# Altium integrated library TI Amplifiers and Linear Operational Amplifier High Speed.IntLib: 1100 symbols (part 2 of 44)
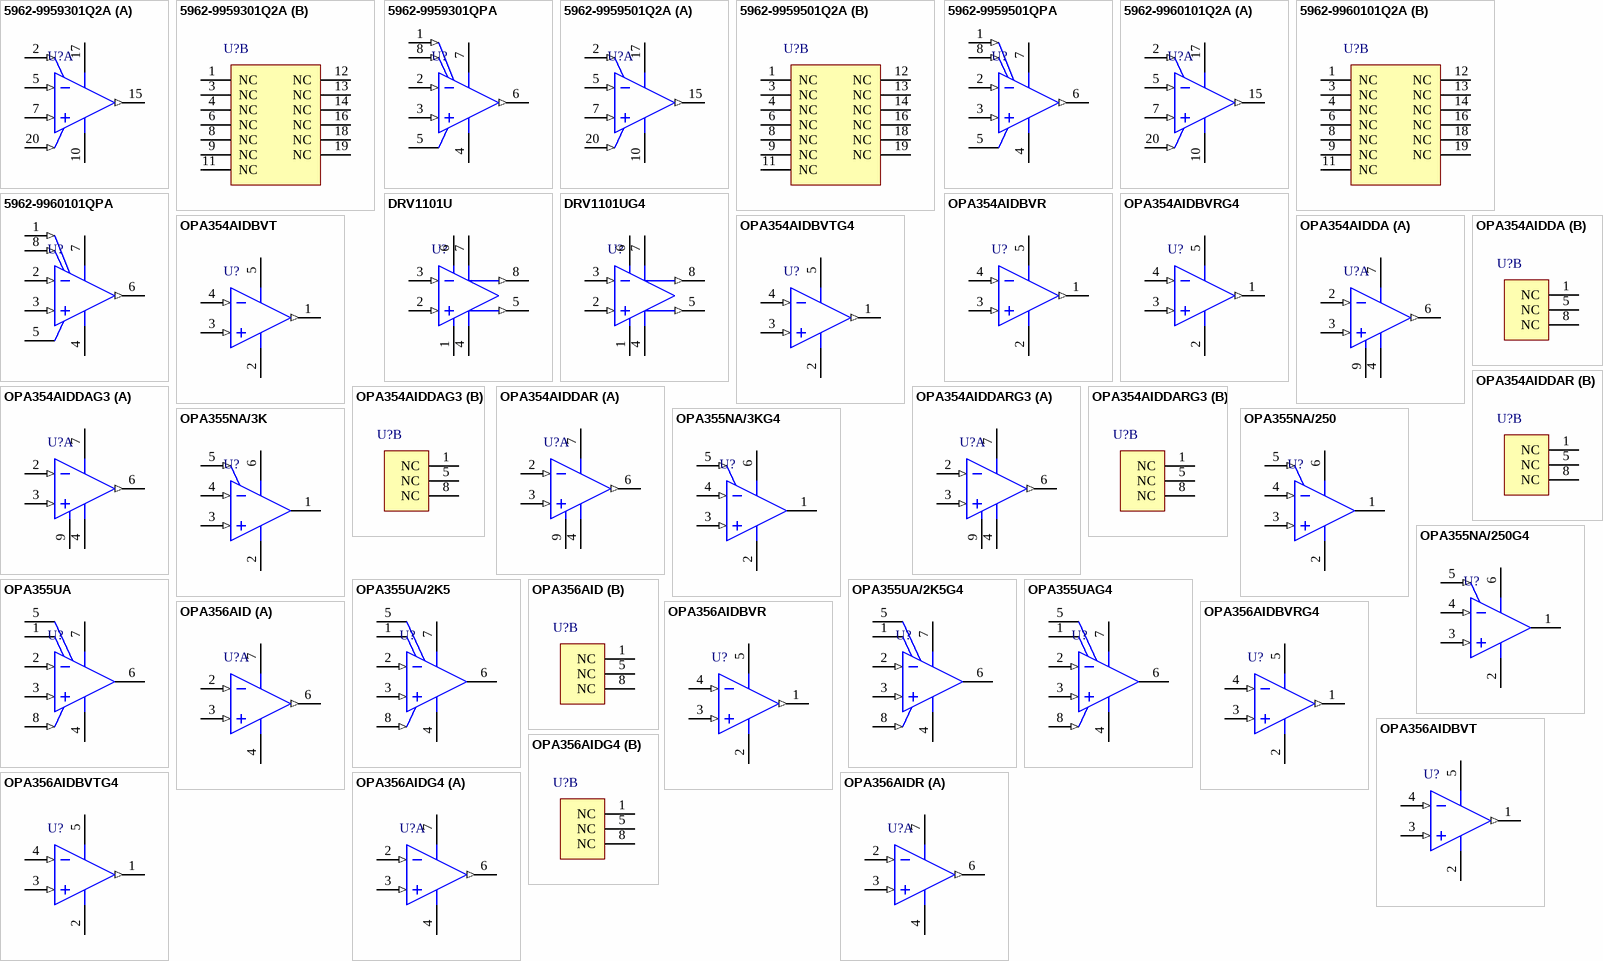
[diagram p52: symbols 5962-9959301Q2A to OPA356AIDR]

## OPA356AIDBVRG4
designator U?
200 MHz GBW, CMOS Single Operational Amplifier, 2.5 to 5.5 V, -40 to 125 degC, 5-pin SOT23 (DBV5), Green (RoHS & no Sb/Br); Manufacturer: Texas Instruments; PartNumber: OPA356AIDBVRG4; 2nd Harmonic(dBc): 81; 3rd Harmonic(dBc): 93; @ MHz: 1; BW @ Acl(MHz): 450; Diff Gain(%): 0.02; Diff Phase(deg): 0.05; Io(Typ)(mA): 100; Iq per channel(Max)(mA): 14; Rail-Rail: Out; Settling Time (0.1%)(Typ)(ns): 30; Slew Rate(Typ)(V/us): 360; Sub Family: High Output Current Amplifier (>=50mA), High Speed Amplifier (>=50MHz), Low Supply Voltage Amplifier (<=2.7V); THD (Fc is 1 MHz)(Typ)(dB): -79; Vio(Max)(mV): 9; Vn at Flatband(Typ)(nV/rtHz): 5.8; Vs(Max)(V): 5.5; Vs(Min)(V): 2.5; DatasheetVersion: SBOS212A; PackageVersion: 4073253-4/K, 03/2006; PackageReference: DBV5; PackageDescription: 5-Pin Plastic Small Outline, Body 1.6 x 2.9 mm, Pitch 0.95 mm; Supplier 1: Digi-Key; Supplier Part Number 1: OPA356AIDBVRG4-ND; Supplier 2: Newark; Supplier Part Number 2: 66K4003; Supplier 3: Mouser; Supplier Part Number 3: 595-OPA356AIDBVRG4; Acl, min stable gain(V/V): 1; Eco-Plan: Green (RoHS & no Sb/Br); Iib(Max)(nA): 0.05; Number of Channels: 1; Mounting Technology: Surface Mount; Code_JEDEC: MO-178; ComponentLink1Description: Manufacturer URL; ComponentLink1URL: http://www.ti.com/; ComponentLink2Description: Datasheet; ComponentLink2URL: http://www.ti.com/general/docs/lit/getliterature.tsp?genericPartNumber=OPA356&fileType=pdf; ComponentLink3Description: Package Specification; ComponentLink3URL: http://www.ti.com/litv/pdf/mpds018i
footprint TI-DBV5_N (SOT23, 5-Leads, Body 2.9x1.6mm, Pitch 0.95mm, IPC Medium Density)
footprint TI-DBV5_L (SOT23, 5-Leads, Body 2.9x1.6mm, Pitch 0.95mm, IPC High Density)
footprint TI-DBV5_M (SOT23, 5-Leads, Body 2.9x1.6mm, Pitch 0.95mm, IPC Low Density)
pins: 1 OUT (out), 2 V- (power), 3 IN+ (in), 4 IN- (in), 5 V+ (power)

## OPA356AIDBVT
designator U?
200 MHz GBW, CMOS Single Operational Amplifier, 2.5 to 5.5 V, -40 to 125 degC, 5-pin SOT23 (DBV5), Green (RoHS & no Sb/Br); Manufacturer: Texas Instruments; PartNumber: OPA356AIDBVT; 2nd Harmonic(dBc): 81; 3rd Harmonic(dBc): 93; @ MHz: 1; BW @ Acl(MHz): 450; Diff Gain(%): 0.02; Diff Phase(deg): 0.05; Io(Typ)(mA): 100; Iq per channel(Max)(mA): 14; Rail-Rail: Out; Settling Time (0.1%)(Typ)(ns): 30; Slew Rate(Typ)(V/us): 360; Sub Family: High Output Current Amplifier (>=50mA), High Speed Amplifier (>=50MHz), Low Supply Voltage Amplifier (<=2.7V); THD (Fc is 1 MHz)(Typ)(dB): -79; Vio(Max)(mV): 9; Vn at Flatband(Typ)(nV/rtHz): 5.8; Vs(Max)(V): 5.5; Vs(Min)(V): 2.5; DatasheetVersion: SBOS212A; PackageVersion: 4073253-4/K, 03/2006; PackageReference: DBV5; PackageDescription: 5-Pin Plastic Small Outline, Body 1.6 x 2.9 mm, Pitch 0.95 mm; Supplier 1: Digi-Key; Supplier Part Number 1: 296-12619-2-ND; Supplier 2: Digi-Key; Supplier Part Number 2: 296-12619-1-ND; Supplier 3: Digi-Key; Supplier Part Number 3: 296-12619-6-ND; Supplier 4: Farnell; Supplier Part Number 4: 1100953; Supplier 5: Newark; Supplier Part Number 5: 02M6680; Supplier 6: Newark; Supplier Part Number 6: 75C4913; Supplier 7: Mouser; Supplier Part Number 7: 595-OPA356AIDBVT; Acl, min stable gain(V/V): 1; Eco-Plan: Green (RoHS & no Sb/Br); Iib(Max)(nA): 0.05; Number of Channels: 1; Mounting Technology: Surface Mount; Code_JEDEC: MO-178; ComponentLink1Description: Manufacturer URL; ComponentLink1URL: http://www.ti.com/; ComponentLink2Description: Datasheet; ComponentLink2URL: http://www.ti.com/general/docs/lit/getliterature.tsp?genericPartNumber=OPA356&fileType=pdf; ComponentLink3Description: Package Specification; ComponentLink3URL: http://www.ti.com/litv/pdf/mpds018i
footprint TI-DBV5_N (SOT23, 5-Leads, Body 2.9x1.6mm, Pitch 0.95mm, IPC Medium Density)
footprint TI-DBV5_L (SOT23, 5-Leads, Body 2.9x1.6mm, Pitch 0.95mm, IPC High Density)
footprint TI-DBV5_M (SOT23, 5-Leads, Body 2.9x1.6mm, Pitch 0.95mm, IPC Low Density)
pins: 1 OUT (out), 2 V- (power), 3 IN+ (in), 4 IN- (in), 5 V+ (power)

## OPA356AIDBVTG4
designator U?
200 MHz GBW, CMOS Single Operational Amplifier, 2.5 to 5.5 V, -40 to 125 degC, 5-pin SOT23 (DBV5), Green (RoHS & no Sb/Br); Manufacturer: Texas Instruments; PartNumber: OPA356AIDBVTG4; 2nd Harmonic(dBc): 81; 3rd Harmonic(dBc): 93; @ MHz: 1; BW @ Acl(MHz): 450; Diff Gain(%): 0.02; Diff Phase(deg): 0.05; Io(Typ)(mA): 100; Iq per channel(Max)(mA): 14; Rail-Rail: Out; Settling Time (0.1%)(Typ)(ns): 30; Slew Rate(Typ)(V/us): 360; Sub Family: High Output Current Amplifier (>=50mA), High Speed Amplifier (>=50MHz), Low Supply Voltage Amplifier (<=2.7V); THD (Fc is 1 MHz)(Typ)(dB): -79; Vio(Max)(mV): 9; Vn at Flatband(Typ)(nV/rtHz): 5.8; Vs(Max)(V): 5.5; Vs(Min)(V): 2.5; DatasheetVersion: SBOS212A; PackageVersion: 4073253-4/K, 03/2006; PackageReference: DBV5; PackageDescription: 5-Pin Plastic Small Outline, Body 1.6 x 2.9 mm, Pitch 0.95 mm; Supplier 1: Digi-Key; Supplier Part Number 1: OPA356AIDBVTG4-ND; Supplier 2: Mouser; Supplier Part Number 2: 595-OPA356AIDBVTG4; Acl, min stable gain(V/V): 1; Eco-Plan: Green (RoHS & no Sb/Br); Iib(Max)(nA): 0.05; Number of Channels: 1; Mounting Technology: Surface Mount; Code_JEDEC: MO-178; ComponentLink1Description: Manufacturer URL; ComponentLink1URL: http://www.ti.com/; ComponentLink2Description: Datasheet; ComponentLink2URL: http://www.ti.com/general/docs/lit/getliterature.tsp?genericPartNumber=OPA356&fileType=pdf; ComponentLink3Description: Package Specification; ComponentLink3URL: http://www.ti.com/litv/pdf/mpds018i
footprint TI-DBV5_N (SOT23, 5-Leads, Body 2.9x1.6mm, Pitch 0.95mm, IPC Medium Density)
footprint TI-DBV5_L (SOT23, 5-Leads, Body 2.9x1.6mm, Pitch 0.95mm, IPC High Density)
footprint TI-DBV5_M (SOT23, 5-Leads, Body 2.9x1.6mm, Pitch 0.95mm, IPC Low Density)
pins: 1 OUT (out), 2 V- (power), 3 IN+ (in), 4 IN- (in), 5 V+ (power)

## OPA356AIDG4
designator U?
200 MHz GBW, CMOS Single Operational Amplifier, 2.5 to 5.5 V, -40 to 125 degC, 8-pin SOIC (D8), Green (RoHS & no Sb/Br); Manufacturer: Texas Instruments; PartNumber: OPA356AIDG4; 2nd Harmonic(dBc): 81; 3rd Harmonic(dBc): 93; @ MHz: 1; BW @ Acl(MHz): 450; Diff Gain(%): 0.02; Diff Phase(deg): 0.05; Io(Typ)(mA): 100; Iq per channel(Max)(mA): 14; Rail-Rail: Out; Settling Time (0.1%)(Typ)(ns): 30; Slew Rate(Typ)(V/us): 360; Sub Family: High Output Current Amplifier (>=50mA), High Speed Amplifier (>=50MHz), Low Supply Voltage Amplifier (<=2.7V); THD (Fc is 1 MHz)(Typ)(dB): -79; Vio(Max)(mV): 9; Vn at Flatband(Typ)(nV/rtHz): 5.8; Vs(Max)(V): 5.5; Vs(Min)(V): 2.5; DatasheetVersion: SBOS212A; PackageVersion: 4040047-3/M, 06/2011; PackageReference: D8; PackageDescription: 8-Pin Plastic Small Outline, Body 4.9 x 3.9 mm, Pitch 1.27 mm; Supplier 1: Digi-Key; Supplier Part Number 1: OPA356AIDG4-ND; Supplier 2: Mouser; Supplier Part Number 2: 595-OPA356AIDG4; Acl, min stable gain(V/V): 1; Eco-Plan: Green (RoHS & no Sb/Br); Iib(Max)(nA): 0.05; Number of Channels: 1; Mounting Technology: Surface Mount; Code_JEDEC: MS-012; ComponentLink1Description: Manufacturer URL; ComponentLink1URL: http://www.ti.com/; ComponentLink2Description: Datasheet; ComponentLink2URL: http://www.ti.com/general/docs/lit/getliterature.tsp?genericPartNumber=OPA356&fileType=pdf; ComponentLink3Description: Package Specification; ComponentLink3URL: http://www.ti.com/litv/pdf/msoi002j
footprint TI-D8_N (SOIC, 8-Leads, Body 4.9x3.9mm, Pitch 1.27mm, IPC Medium Density)
footprint TI-D8_L (SOIC, 8-Leads, Body 4.9x3.9mm, Pitch 1.27mm, IPC High Density)
footprint TI-D8_M (SOIC, 8-Leads, Body 4.9x3.9mm, Pitch 1.27mm, IPC Low Density)
part A pins: 2 IN- (in), 3 IN+ (in), 4 V- (power), 6 OUT (out), 7 V+ (power)
part B pins: 1 NC, 5 NC, 8 NC

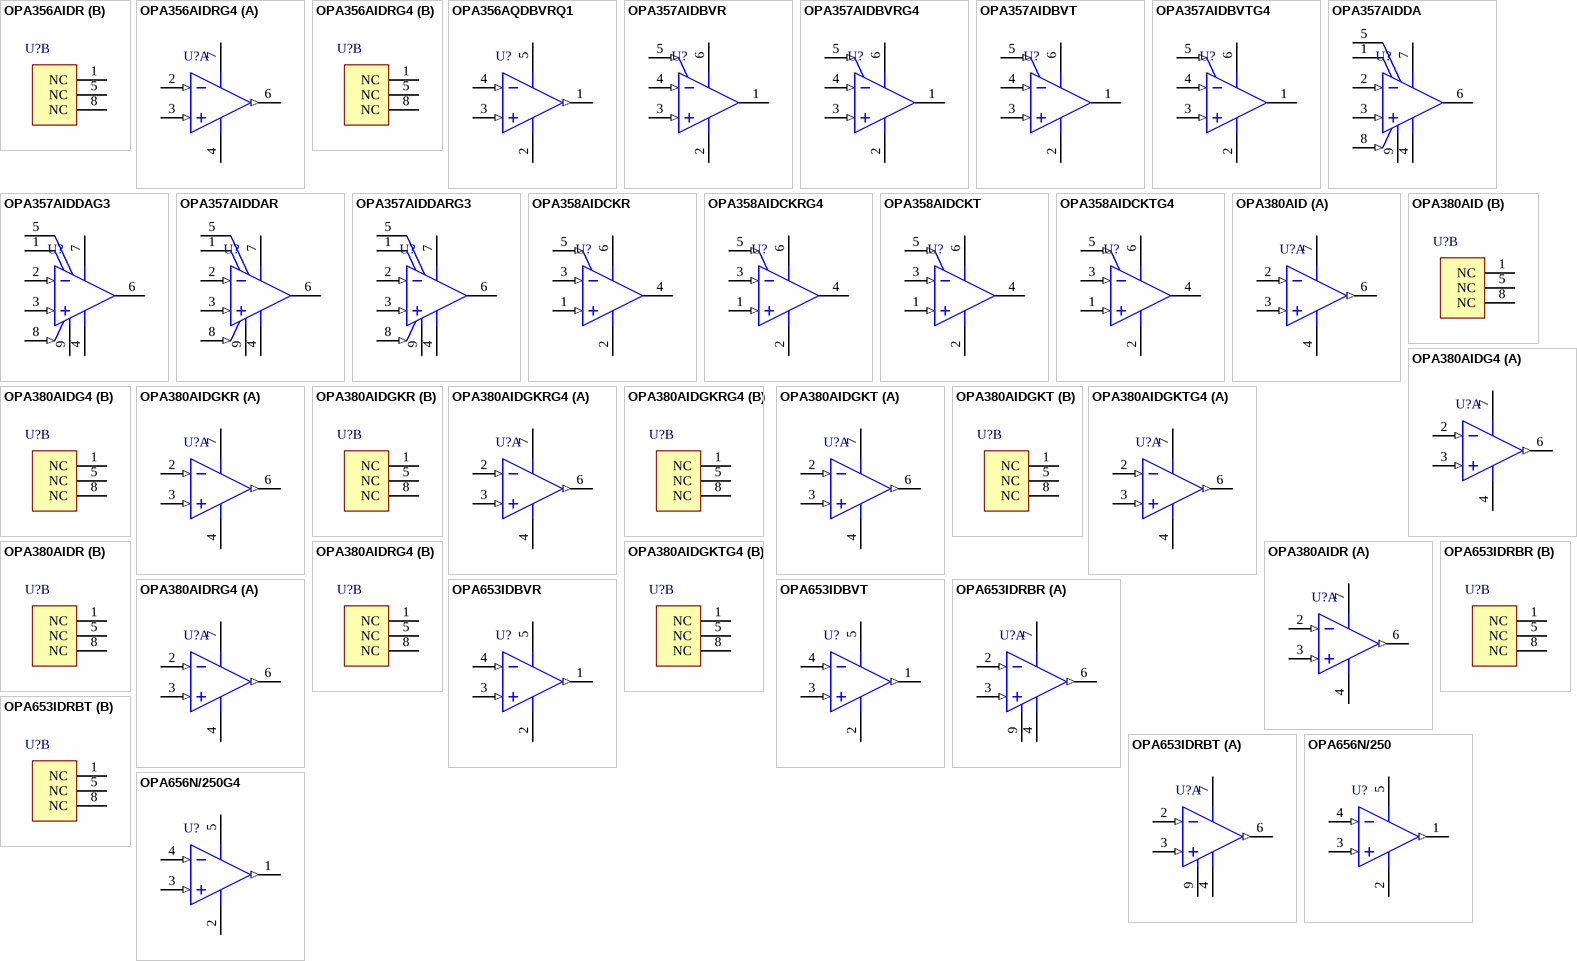
[diagram p1: symbols OPA356AIDR to OPA656N/250G4]

## OPA356AIDR
designator U?
200 MHz GBW, CMOS Single Operational Amplifier, 2.5 to 5.5 V, -40 to 125 degC, 8-pin SOIC (D8), Green (RoHS & no Sb/Br); Manufacturer: Texas Instruments; PartNumber: OPA356AIDR; 2nd Harmonic(dBc): 81; 3rd Harmonic(dBc): 93; @ MHz: 1; BW @ Acl(MHz): 450; Diff Gain(%): 0.02; Diff Phase(deg): 0.05; Io(Typ)(mA): 100; Iq per channel(Max)(mA): 14; Rail-Rail: Out; Settling Time (0.1%)(Typ)(ns): 30; Slew Rate(Typ)(V/us): 360; Sub Family: High Output Current Amplifier (>=50mA), High Speed Amplifier (>=50MHz), Low Supply Voltage Amplifier (<=2.7V); THD (Fc is 1 MHz)(Typ)(dB): -79; Vio(Max)(mV): 9; Vn at Flatband(Typ)(nV/rtHz): 5.8; Vs(Max)(V): 5.5; Vs(Min)(V): 2.5; DatasheetVersion: SBOS212A; PackageVersion: 4040047-3/M, 06/2011; PackageReference: D8; PackageDescription: 8-Pin Plastic Small Outline, Body 4.9 x 3.9 mm, Pitch 1.27 mm; Supplier 1: Digi-Key; Supplier Part Number 1: OPA356AIDR-ND; Supplier 2: Newark; Supplier Part Number 2: 75C4914; Supplier 3: Mouser; Supplier Part Number 3: 595-OPA356AIDR; Acl, min stable gain(V/V): 1; Eco-Plan: Green (RoHS & no Sb/Br); Iib(Max)(nA): 0.05; Number of Channels: 1; Mounting Technology: Surface Mount; Code_JEDEC: MS-012; ComponentLink1Description: Manufacturer URL; ComponentLink1URL: http://www.ti.com/; ComponentLink2Description: Datasheet; ComponentLink2URL: http://www.ti.com/general/docs/lit/getliterature.tsp?genericPartNumber=OPA356&fileType=pdf; ComponentLink3Description: Package Specification; ComponentLink3URL: http://www.ti.com/litv/pdf/msoi002j
footprint TI-D8_N (SOIC, 8-Leads, Body 4.9x3.9mm, Pitch 1.27mm, IPC Medium Density)
footprint TI-D8_L (SOIC, 8-Leads, Body 4.9x3.9mm, Pitch 1.27mm, IPC High Density)
footprint TI-D8_M (SOIC, 8-Leads, Body 4.9x3.9mm, Pitch 1.27mm, IPC Low Density)
part A pins: 2 IN- (in), 3 IN+ (in), 4 V- (power), 6 OUT (out), 7 V+ (power)
part B pins: 1 NC, 5 NC, 8 NC

## OPA356AIDRG4
designator U?
200 MHz GBW, CMOS Single Operational Amplifier, 2.5 to 5.5 V, -40 to 125 degC, 8-pin SOIC (D8), Green (RoHS & no Sb/Br); Manufacturer: Texas Instruments; PartNumber: OPA356AIDRG4; 2nd Harmonic(dBc): 81; 3rd Harmonic(dBc): 93; @ MHz: 1; BW @ Acl(MHz): 450; Diff Gain(%): 0.02; Diff Phase(deg): 0.05; Io(Typ)(mA): 100; Iq per channel(Max)(mA): 14; Rail-Rail: Out; Settling Time (0.1%)(Typ)(ns): 30; Slew Rate(Typ)(V/us): 360; Sub Family: High Output Current Amplifier (>=50mA), High Speed Amplifier (>=50MHz), Low Supply Voltage Amplifier (<=2.7V); THD (Fc is 1 MHz)(Typ)(dB): -79; Vio(Max)(mV): 9; Vn at Flatband(Typ)(nV/rtHz): 5.8; Vs(Max)(V): 5.5; Vs(Min)(V): 2.5; DatasheetVersion: SBOS212A; PackageVersion: 4040047-3/M, 06/2011; PackageReference: D8; PackageDescription: 8-Pin Plastic Small Outline, Body 4.9 x 3.9 mm, Pitch 1.27 mm; Supplier 1: Digi-Key; Supplier Part Number 1: OPA356AIDRG4-ND; Supplier 2: Mouser; Supplier Part Number 2: 595-OPA356AIDRG4; Acl, min stable gain(V/V): 1; Eco-Plan: Green (RoHS & no Sb/Br); Iib(Max)(nA): 0.05; Number of Channels: 1; Mounting Technology: Surface Mount; Code_JEDEC: MS-012; ComponentLink1Description: Manufacturer URL; ComponentLink1URL: http://www.ti.com/; ComponentLink2Description: Datasheet; ComponentLink2URL: http://www.ti.com/general/docs/lit/getliterature.tsp?genericPartNumber=OPA356&fileType=pdf; ComponentLink3Description: Package Specification; ComponentLink3URL: http://www.ti.com/litv/pdf/msoi002j
footprint TI-D8_N (SOIC, 8-Leads, Body 4.9x3.9mm, Pitch 1.27mm, IPC Medium Density)
footprint TI-D8_L (SOIC, 8-Leads, Body 4.9x3.9mm, Pitch 1.27mm, IPC High Density)
footprint TI-D8_M (SOIC, 8-Leads, Body 4.9x3.9mm, Pitch 1.27mm, IPC Low Density)
part A pins: 2 IN- (in), 3 IN+ (in), 4 V- (power), 6 OUT (out), 7 V+ (power)
part B pins: 1 NC, 5 NC, 8 NC

## OPA356AQDBVRQ1
designator U?
200 MHz GBW, CMOS Single Operational Amplifier, 2.5 to 5.5 V, -40 to 125 degC, 5-pin SOT23 (DBV5), Green (RoHS & no Sb/Br); Manufacturer: Texas Instruments; PartNumber: OPA356AQDBVRQ1; 2nd Harmonic(dBc): 81; 3rd Harmonic(dBc): 93; Acl, min stable gain(V/V): 1; BW @ Acl(MHz): 450; Diff Gain(%): 0.02; Diff Phase(deg): 0.05; Io(Typ)(mA): 80; Iq per channel(Max)(mA): 14; Rail-Rail: Out; Settling Time (0.1%)(Typ)(ns): 30; Slew Rate(Typ)(V/us): 360; Sub Family: High Output Current Amplifier (>=50mA), High Speed Amplifier (>=50MHz), Low Supply Voltage Amplifier (<=2.7V); Vio(Max)(mV): 15; Vn at Flatband(Typ)(nV/rtHz): 5.8; Vs(Max)(V): 5.5; Vs(Min)(V): 2.5; DatasheetVersion: SBOS479; PackageVersion: 4073253-4/K, 03/2006; PackageReference: DBV5; PackageDescription: 5-Pin Plastic Small Outline, Body 1.6 x 2.9 mm, Pitch 0.95 mm; Supplier 1: Digi-Key; Supplier Part Number 1: 296-25390-2-ND; Supplier 2: Digi-Key; Supplier Part Number 2: 296-25390-1-ND; Supplier 3: Digi-Key; Supplier Part Number 3: 296-25390-6-ND; Supplier 4: Mouser; Supplier Part Number 4: 595-OPA356AQDBVRQ1; Eco-Plan: Green (RoHS & no Sb/Br); Iib(Max)(nA): 0.05; Number of Channels: 1; Mounting Technology: Surface Mount; Code_JEDEC: MO-178; ComponentLink1Description: Manufacturer URL; ComponentLink1URL: http://www.ti.com/; ComponentLink2Description: Datasheet; ComponentLink2URL: http://www.ti.com/general/docs/lit/getliterature.tsp?genericPartNumber=OPA356-Q1&fileType=pdf; ComponentLink3Description: Package Specification; ComponentLink3URL: http://www.ti.com/litv/pdf/mpds018i
footprint TI-DBV5_N (SOT23, 5-Leads, Body 2.9x1.6mm, Pitch 0.95mm, IPC Medium Density)
footprint TI-DBV5_L (SOT23, 5-Leads, Body 2.9x1.6mm, Pitch 0.95mm, IPC High Density)
footprint TI-DBV5_M (SOT23, 5-Leads, Body 2.9x1.6mm, Pitch 0.95mm, IPC Low Density)
pins: 1 OUT (out), 2 V- (power), 3 IN+ (in), 4 IN- (in), 5 V+ (power)

## OPA357AIDBVR
designator U?
250 MHz, Rail-to-Rail I/O, Single CMOS Operational Amplifier with Shutdown, 2.5 to 5.5 V, -40 to 125 degC, 6-pin SOT23 (DBV6), Green (RoHS & no Sb/Br); Manufacturer: Texas Instruments; PartNumber: OPA357AIDBVR; 2nd Harmonic(dBc): 75; 3rd Harmonic(dBc): 83; @ MHz: 1; BW @ Acl(MHz): 250; Diff Gain(%): 0.02; Diff Phase(deg): 0.09; Iib(Max)(nA): 0.05; Io(Typ)(mA): 100; Iq per channel(Max)(mA): 7.5; Rail-Rail: In, Out; Settling Time (0.1%)(Typ)(ns): 30; Slew Rate(Typ)(V/us): 150; Sub Family: High Output Current Amplifier (>=50mA), High Speed Amplifier (>=50MHz), Low Supply Voltage Amplifier (<=2.7V); THD (Fc is 1 MHz)(Typ)(dB): -74; Vio(Max)(mV): 8; Vn at Flatband(Typ)(nV/rtHz): 6.5; Vs(Max)(V): 5.5; Vs(Min)(V): 2.5; DatasheetVersion: SBOS235E; PackageVersion: 4073253-5/K, 03/2006; PackageReference: DBV6; PackageDescription: 6-Pin Plastic Small Outline, Body 1.6 x 2.9 mm, Pitch 0.95 mm; Supplier 1: Digi-Key; Supplier Part Number 1: 296-26280-2-ND; Supplier 2: Digi-Key; Supplier Part Number 2: 296-26280-1-ND; Supplier 3: Digi-Key; Supplier Part Number 3: 296-26280-6-ND; Supplier 4: Newark; Supplier Part Number 4: 75C4915; Supplier 5: Mouser; Supplier Part Number 5: 595-OPA357AIDBVR; Acl, min stable gain(V/V): 1; Eco-Plan: Green (RoHS & no Sb/Br); Number of Channels: 1; Mounting Technology: Surface Mount; Code_JEDEC: MO-178; ComponentLink1Description: Manufacturer URL; ComponentLink1URL: http://www.ti.com/; ComponentLink2Description: Datasheet; ComponentLink2URL: http://www.ti.com/general/docs/lit/getliterature.tsp?genericPartNumber=OPA357&fileType=pdf; ComponentLink3Description: Package Specification; ComponentLink3URL: http://www.ti.com/litv/pdf/mpds026h
footprint TI-DBV6_N (SOT23, 6-Leads, Body 2.9x1.6mm, Pitch 0.95mm, IPC Medium Density)
footprint TI-DBV6_L (SOT23, 6-Leads, Body 2.9x1.6mm, Pitch 0.95mm, IPC High Density)
footprint TI-DBV6_M (SOT23, 6-Leads, Body 2.9x1.6mm, Pitch 0.95mm, IPC Low Density)
pins: 1 OUT (hiz), 2 V- (power), 3 IN+ (in), 4 IN- (in), 5 ENABLE (in), 6 V+ (power)

## OPA357AIDBVRG4
designator U?
250 MHz, Rail-to-Rail I/O, Single CMOS Operational Amplifier with Shutdown, 2.5 to 5.5 V, -40 to 125 degC, 6-pin SOT23 (DBV6), Green (RoHS & no Sb/Br); Manufacturer: Texas Instruments; PartNumber: OPA357AIDBVRG4; 2nd Harmonic(dBc): 75; 3rd Harmonic(dBc): 83; @ MHz: 1; BW @ Acl(MHz): 250; Diff Gain(%): 0.02; Diff Phase(deg): 0.09; Iib(Max)(nA): 0.05; Io(Typ)(mA): 100; Iq per channel(Max)(mA): 7.5; Rail-Rail: In, Out; Settling Time (0.1%)(Typ)(ns): 30; Slew Rate(Typ)(V/us): 150; Sub Family: High Output Current Amplifier (>=50mA), High Speed Amplifier (>=50MHz), Low Supply Voltage Amplifier (<=2.7V); THD (Fc is 1 MHz)(Typ)(dB): -74; Vio(Max)(mV): 8; Vn at Flatband(Typ)(nV/rtHz): 6.5; Vs(Max)(V): 5.5; Vs(Min)(V): 2.5; DatasheetVersion: SBOS235E; PackageVersion: 4073253-5/K, 03/2006; PackageReference: DBV6; PackageDescription: 6-Pin Plastic Small Outline, Body 1.6 x 2.9 mm, Pitch 0.95 mm; Supplier 1: Digi-Key; Supplier Part Number 1: OPA357AIDBVRG4-ND; Supplier 2: Newark; Supplier Part Number 2: 71J7134; Supplier 3: Mouser; Supplier Part Number 3: 595-OPA357AIDBVRG4; Acl, min stable gain(V/V): 1; Eco-Plan: Green (RoHS & no Sb/Br); Number of Channels: 1; Mounting Technology: Surface Mount; Code_JEDEC: MO-178; ComponentLink1Description: Manufacturer URL; ComponentLink1URL: http://www.ti.com/; ComponentLink2Description: Datasheet; ComponentLink2URL: http://www.ti.com/general/docs/lit/getliterature.tsp?genericPartNumber=OPA357&fileType=pdf; ComponentLink3Description: Package Specification; ComponentLink3URL: http://www.ti.com/litv/pdf/mpds026h
footprint TI-DBV6_N (SOT23, 6-Leads, Body 2.9x1.6mm, Pitch 0.95mm, IPC Medium Density)
footprint TI-DBV6_L (SOT23, 6-Leads, Body 2.9x1.6mm, Pitch 0.95mm, IPC High Density)
footprint TI-DBV6_M (SOT23, 6-Leads, Body 2.9x1.6mm, Pitch 0.95mm, IPC Low Density)
pins: 1 OUT (hiz), 2 V- (power), 3 IN+ (in), 4 IN- (in), 5 ENABLE (in), 6 V+ (power)

## OPA357AIDBVT
designator U?
250 MHz, Rail-to-Rail I/O, Single CMOS Operational Amplifier with Shutdown, 2.5 to 5.5 V, -40 to 125 degC, 6-pin SOT23 (DBV6), Green (RoHS & no Sb/Br); Manufacturer: Texas Instruments; PartNumber: OPA357AIDBVT; 2nd Harmonic(dBc): 75; 3rd Harmonic(dBc): 83; @ MHz: 1; BW @ Acl(MHz): 250; Diff Gain(%): 0.02; Diff Phase(deg): 0.09; Iib(Max)(nA): 0.05; Io(Typ)(mA): 100; Iq per channel(Max)(mA): 7.5; Rail-Rail: In, Out; Settling Time (0.1%)(Typ)(ns): 30; Slew Rate(Typ)(V/us): 150; Sub Family: High Output Current Amplifier (>=50mA), High Speed Amplifier (>=50MHz), Low Supply Voltage Amplifier (<=2.7V); THD (Fc is 1 MHz)(Typ)(dB): -74; Vio(Max)(mV): 8; Vn at Flatband(Typ)(nV/rtHz): 6.5; Vs(Max)(V): 5.5; Vs(Min)(V): 2.5; DatasheetVersion: SBOS235E; PackageVersion: 4073253-5/K, 03/2006; PackageReference: DBV6; PackageDescription: 6-Pin Plastic Small Outline, Body 1.6 x 2.9 mm, Pitch 0.95 mm; Supplier 1: Digi-Key; Supplier Part Number 1: 296-13009-2-ND; Supplier 2: Digi-Key; Supplier Part Number 2: 296-13009-1-ND; Supplier 3: Digi-Key; Supplier Part Number 3: 296-13009-6-ND; Supplier 4: Newark; Supplier Part Number 4: 86W6067; Supplier 5: Newark; Supplier Part Number 5: 75C4916; Supplier 6: Mouser; Supplier Part Number 6: 595-OPA357AIDBVT; Acl, min stable gain(V/V): 1; Eco-Plan: Green (RoHS & no Sb/Br); Number of Channels: 1; Mounting Technology: Surface Mount; Code_JEDEC: MO-178; ComponentLink1Description: Manufacturer URL; ComponentLink1URL: http://www.ti.com/; ComponentLink2Description: Datasheet; ComponentLink2URL: http://www.ti.com/general/docs/lit/getliterature.tsp?genericPartNumber=OPA357&fileType=pdf; ComponentLink3Description: Package Specification; ComponentLink3URL: http://www.ti.com/litv/pdf/mpds026h
footprint TI-DBV6_N (SOT23, 6-Leads, Body 2.9x1.6mm, Pitch 0.95mm, IPC Medium Density)
footprint TI-DBV6_L (SOT23, 6-Leads, Body 2.9x1.6mm, Pitch 0.95mm, IPC High Density)
footprint TI-DBV6_M (SOT23, 6-Leads, Body 2.9x1.6mm, Pitch 0.95mm, IPC Low Density)
pins: 1 OUT (hiz), 2 V- (power), 3 IN+ (in), 4 IN- (in), 5 ENABLE (in), 6 V+ (power)

## OPA357AIDBVTG4
designator U?
250 MHz, Rail-to-Rail I/O, Single CMOS Operational Amplifier with Shutdown, 2.5 to 5.5 V, -40 to 125 degC, 6-pin SOT23 (DBV6), Green (RoHS & no Sb/Br); Manufacturer: Texas Instruments; PartNumber: OPA357AIDBVTG4; 2nd Harmonic(dBc): 75; 3rd Harmonic(dBc): 83; @ MHz: 1; BW @ Acl(MHz): 250; Diff Gain(%): 0.02; Diff Phase(deg): 0.09; Iib(Max)(nA): 0.05; Io(Typ)(mA): 100; Iq per channel(Max)(mA): 7.5; Rail-Rail: In, Out; Settling Time (0.1%)(Typ)(ns): 30; Slew Rate(Typ)(V/us): 150; Sub Family: High Output Current Amplifier (>=50mA), High Speed Amplifier (>=50MHz), Low Supply Voltage Amplifier (<=2.7V); THD (Fc is 1 MHz)(Typ)(dB): -74; Vio(Max)(mV): 8; Vn at Flatband(Typ)(nV/rtHz): 6.5; Vs(Max)(V): 5.5; Vs(Min)(V): 2.5; DatasheetVersion: SBOS235E; PackageVersion: 4073253-5/K, 03/2006; PackageReference: DBV6; PackageDescription: 6-Pin Plastic Small Outline, Body 1.6 x 2.9 mm, Pitch 0.95 mm; Supplier 1: Digi-Key; Supplier Part Number 1: OPA357AIDBVTG4-ND; Supplier 2: Farnell; Supplier Part Number 2: 1207053; Supplier 3: Newark; Supplier Part Number 3: 97K6837; Supplier 4: Newark; Supplier Part Number 4: 85K1346; Supplier 5: Mouser; Supplier Part Number 5: 595-OPA357AIDBVTG4; Acl, min stable gain(V/V): 1; Eco-Plan: Green (RoHS & no Sb/Br); Number of Channels: 1; Mounting Technology: Surface Mount; Code_JEDEC: MO-178; ComponentLink1Description: Manufacturer URL; ComponentLink1URL: http://www.ti.com/; ComponentLink2Description: Datasheet; ComponentLink2URL: http://www.ti.com/general/docs/lit/getliterature.tsp?genericPartNumber=OPA357&fileType=pdf; ComponentLink3Description: Package Specification; ComponentLink3URL: http://www.ti.com/litv/pdf/mpds026h
footprint TI-DBV6_N (SOT23, 6-Leads, Body 2.9x1.6mm, Pitch 0.95mm, IPC Medium Density)
footprint TI-DBV6_L (SOT23, 6-Leads, Body 2.9x1.6mm, Pitch 0.95mm, IPC High Density)
footprint TI-DBV6_M (SOT23, 6-Leads, Body 2.9x1.6mm, Pitch 0.95mm, IPC Low Density)
pins: 1 OUT (hiz), 2 V- (power), 3 IN+ (in), 4 IN- (in), 5 ENABLE (in), 6 V+ (power)

## OPA357AIDDA
designator U?
250 MHz, Rail-to-Rail I/O, Single CMOS Operational Amplifier with Shutdown, 2.5 to 5.5 V, -40 to 125 degC, 8-pin SOP (DDA8), Green (RoHS & no Sb/Br); Manufacturer: Texas Instruments; PartNumber: OPA357AIDDA; 2nd Harmonic(dBc): 75; 3rd Harmonic(dBc): 83; @ MHz: 1; BW @ Acl(MHz): 250; Diff Gain(%): 0.02; Diff Phase(deg): 0.09; Iib(Max)(nA): 0.05; Io(Typ)(mA): 100; Iq per channel(Max)(mA): 7.5; Rail-Rail: In, Out; Settling Time (0.1%)(Typ)(ns): 30; Slew Rate(Typ)(V/us): 150; Sub Family: High Output Current Amplifier (>=50mA), High Speed Amplifier (>=50MHz), Low Supply Voltage Amplifier (<=2.7V); THD (Fc is 1 MHz)(Typ)(dB): -74; Vio(Max)(mV): 8; Vn at Flatband(Typ)(nV/rtHz): 6.5; Vs(Max)(V): 5.5; Vs(Min)(V): 2.5; DatasheetVersion: SBOS235E; PackageVersion: 4202561/F, 12/2011; PackageReference: DDA8-1775X1775TP; PackageDescription: 8-Pin PowerPAD(TM) Plastic Small Outline, Body 4.9 x 3.9 mm, Pitch 1.27 mm; Supplier 1: Digi-Key; Supplier Part Number 1: 296-13786-5-ND; Supplier 2: Newark; Supplier Part Number 2: 02E6716; Supplier 3: Mouser; Supplier Part Number 3: 595-OPA357AIDDA; Acl, min stable gain(V/V): 1; Eco-Plan: Green (RoHS & no Sb/Br); Number of Channels: 1; Mounting Technology: Surface Mount; Code_JEDEC: MS-012; ComponentLink1Description: Manufacturer URL; ComponentLink1URL: http://www.ti.com/; ComponentLink2Description: Datasheet; ComponentLink2URL: http://www.ti.com/general/docs/lit/getliterature.tsp?genericPartNumber=OPA357&fileType=pdf; ComponentLink3Description: Package Specification; ComponentLink3URL: http://www.ti.com/litv/pdf/mpds092e
footprint TI-DDA8-1775X1775TP_N (SOP, 8-Leads, Body 4.9x3.9mm, Pitch 1.27mm, Thermal Pad 1.775x1.775mm, IPC Medium Density)
footprint TI-DDA8-1775X1775TP_L (SOP, 8-Leads, Body 4.9x3.9mm, Pitch 1.27mm, Thermal Pad 1.775x1.775mm, IPC High Density)
footprint TI-DDA8-1775X1775TP_M (SOP, 8-Leads, Body 4.9x3.9mm, Pitch 1.27mm, Thermal Pad 1.775x1.775mm, IPC Low Density)
pins: 1 NC, 2 IN- (in), 3 IN+ (in), 4 V- (power), 5 NC, 6 OUT (hiz), 7 V+ (power), 8 ENABLE (in), 9 EP (power)

## OPA357AIDDAG3
designator U?
250 MHz, Rail-to-Rail I/O, Single CMOS Operational Amplifier with Shutdown, 2.5 to 5.5 V, -40 to 125 degC, 8-pin SOP (DDA8), Green (RoHS & no Sb/Br); Manufacturer: Texas Instruments; PartNumber: OPA357AIDDAG3; 2nd Harmonic(dBc): 75; 3rd Harmonic(dBc): 83; @ MHz: 1; BW @ Acl(MHz): 250; Diff Gain(%): 0.02; Diff Phase(deg): 0.09; Iib(Max)(nA): 0.05; Io(Typ)(mA): 100; Iq per channel(Max)(mA): 7.5; Rail-Rail: In, Out; Settling Time (0.1%)(Typ)(ns): 30; Slew Rate(Typ)(V/us): 150; Sub Family: High Output Current Amplifier (>=50mA), High Speed Amplifier (>=50MHz), Low Supply Voltage Amplifier (<=2.7V); THD (Fc is 1 MHz)(Typ)(dB): -74; Vio(Max)(mV): 8; Vn at Flatband(Typ)(nV/rtHz): 6.5; Vs(Max)(V): 5.5; Vs(Min)(V): 2.5; DatasheetVersion: SBOS235E; PackageVersion: 4202561/F, 12/2011; PackageReference: DDA8-1775X1775TP; PackageDescription: 8-Pin PowerPAD(TM) Plastic Small Outline, Body 4.9 x 3.9 mm, Pitch 1.27 mm; Supplier 1: Digi-Key; Supplier Part Number 1: OPA357AIDDAG3-ND; Supplier 2: Newark; Supplier Part Number 2: 73K9257; Supplier 3: Mouser; Supplier Part Number 3: 595-OPA357AIDDAG3; Acl, min stable gain(V/V): 1; Eco-Plan: Green (RoHS & no Sb/Br); Number of Channels: 1; Mounting Technology: Surface Mount; Code_JEDEC: MS-012; ComponentLink1Description: Manufacturer URL; ComponentLink1URL: http://www.ti.com/; ComponentLink2Description: Datasheet; ComponentLink2URL: http://www.ti.com/general/docs/lit/getliterature.tsp?genericPartNumber=OPA357&fileType=pdf; ComponentLink3Description: Package Specification; ComponentLink3URL: http://www.ti.com/litv/pdf/mpds092e
footprint TI-DDA8-1775X1775TP_N (SOP, 8-Leads, Body 4.9x3.9mm, Pitch 1.27mm, Thermal Pad 1.775x1.775mm, IPC Medium Density)
footprint TI-DDA8-1775X1775TP_L (SOP, 8-Leads, Body 4.9x3.9mm, Pitch 1.27mm, Thermal Pad 1.775x1.775mm, IPC High Density)
footprint TI-DDA8-1775X1775TP_M (SOP, 8-Leads, Body 4.9x3.9mm, Pitch 1.27mm, Thermal Pad 1.775x1.775mm, IPC Low Density)
pins: 1 NC, 2 IN- (in), 3 IN+ (in), 4 V- (power), 5 NC, 6 OUT (hiz), 7 V+ (power), 8 ENABLE (in), 9 EP (power)

## OPA357AIDDAR
designator U?
250 MHz, Rail-to-Rail I/O, Single CMOS Operational Amplifier with Shutdown, 2.5 to 5.5 V, -40 to 125 degC, 8-pin SOP (DDA8), Green (RoHS & no Sb/Br); Manufacturer: Texas Instruments; PartNumber: OPA357AIDDAR; 2nd Harmonic(dBc): 75; 3rd Harmonic(dBc): 83; @ MHz: 1; BW @ Acl(MHz): 250; Diff Gain(%): 0.02; Diff Phase(deg): 0.09; Iib(Max)(nA): 0.05; Io(Typ)(mA): 100; Iq per channel(Max)(mA): 7.5; Rail-Rail: In, Out; Settling Time (0.1%)(Typ)(ns): 30; Slew Rate(Typ)(V/us): 150; Sub Family: High Output Current Amplifier (>=50mA), High Speed Amplifier (>=50MHz), Low Supply Voltage Amplifier (<=2.7V); THD (Fc is 1 MHz)(Typ)(dB): -74; Vio(Max)(mV): 8; Vn at Flatband(Typ)(nV/rtHz): 6.5; Vs(Max)(V): 5.5; Vs(Min)(V): 2.5; DatasheetVersion: SBOS235E; PackageVersion: 4202561/F, 12/2011; PackageReference: DDA8-1775X1775TP; PackageDescription: 8-Pin PowerPAD(TM) Plastic Small Outline, Body 4.9 x 3.9 mm, Pitch 1.27 mm; Supplier 1: Digi-Key; Supplier Part Number 1: OPA357AIDDAR-ND; Supplier 2: Mouser; Supplier Part Number 2: 595-OPA357AIDDAR; Acl, min stable gain(V/V): 1; Eco-Plan: Green (RoHS & no Sb/Br); Number of Channels: 1; Mounting Technology: Surface Mount; Code_JEDEC: MS-012; ComponentLink1Description: Manufacturer URL; ComponentLink1URL: http://www.ti.com/; ComponentLink2Description: Datasheet; ComponentLink2URL: http://www.ti.com/general/docs/lit/getliterature.tsp?genericPartNumber=OPA357&fileType=pdf; ComponentLink3Description: Package Specification; ComponentLink3URL: http://www.ti.com/litv/pdf/mpds092e
footprint TI-DDA8-1775X1775TP_N (SOP, 8-Leads, Body 4.9x3.9mm, Pitch 1.27mm, Thermal Pad 1.775x1.775mm, IPC Medium Density)
footprint TI-DDA8-1775X1775TP_L (SOP, 8-Leads, Body 4.9x3.9mm, Pitch 1.27mm, Thermal Pad 1.775x1.775mm, IPC High Density)
footprint TI-DDA8-1775X1775TP_M (SOP, 8-Leads, Body 4.9x3.9mm, Pitch 1.27mm, Thermal Pad 1.775x1.775mm, IPC Low Density)
pins: 1 NC, 2 IN- (in), 3 IN+ (in), 4 V- (power), 5 NC, 6 OUT (hiz), 7 V+ (power), 8 ENABLE (in), 9 EP (power)

## OPA357AIDDARG3
designator U?
250 MHz, Rail-to-Rail I/O, Single CMOS Operational Amplifier with Shutdown, 2.5 to 5.5 V, -40 to 125 degC, 8-pin SOP (DDA8), Green (RoHS & no Sb/Br); Manufacturer: Texas Instruments; PartNumber: OPA357AIDDARG3; 2nd Harmonic(dBc): 75; 3rd Harmonic(dBc): 83; @ MHz: 1; BW @ Acl(MHz): 250; Diff Gain(%): 0.02; Diff Phase(deg): 0.09; Iib(Max)(nA): 0.05; Io(Typ)(mA): 100; Iq per channel(Max)(mA): 7.5; Settling Time (0.1%)(Typ)(ns): 30; Slew Rate(Typ)(V/us): 150; Sub Family: High Output Current Amplifier (>=50mA), High Speed Amplifier (>=50MHz), Low Supply Voltage Amplifier (<=2.7V); THD (Fc is 1 MHz)(Typ)(dB): -74; Vio(Max)(mV): 8; Vn at Flatband(Typ)(nV/rtHz): 6.5; Vs(Max)(V): 5.5; Vs(Min)(V): 2.5; DatasheetVersion: SBOS235E; PackageVersion: 4202561/F, 12/2011; PackageReference: DDA8-1775X1775TP; PackageDescription: 8-Pin PowerPAD(TM) Plastic Small Outline, Body 4.9 x 3.9 mm, Pitch 1.27 mm; Supplier 1: Digi-Key; Supplier Part Number 1: OPA357AIDDARG3-ND; Supplier 2: Mouser; Supplier Part Number 2: 595-OPA357AIDDARG3; Acl, min stable gain(V/V): 1; Eco-Plan: Green (RoHS & no Sb/Br); Number of Channels: 1; Rail-Rail: I/O; Mounting Technology: Surface Mount; Code_JEDEC: MS-012; ComponentLink1Description: Manufacturer URL; ComponentLink1URL: http://www.ti.com/; ComponentLink2Description: Datasheet; ComponentLink2URL: http://www.ti.com/general/docs/lit/getliterature.tsp?genericPartNumber=OPA357&fileType=pdf; ComponentLink3Description: Package Specification; ComponentLink3URL: http://www.ti.com/litv/pdf/mpds092e
footprint TI-DDA8-1775X1775TP_N (SOP, 8-Leads, Body 4.9x3.9mm, Pitch 1.27mm, Thermal Pad 1.775x1.775mm, IPC Medium Density)
footprint TI-DDA8-1775X1775TP_L (SOP, 8-Leads, Body 4.9x3.9mm, Pitch 1.27mm, Thermal Pad 1.775x1.775mm, IPC High Density)
footprint TI-DDA8-1775X1775TP_M (SOP, 8-Leads, Body 4.9x3.9mm, Pitch 1.27mm, Thermal Pad 1.775x1.775mm, IPC Low Density)
pins: 1 NC, 2 IN- (in), 3 IN+ (in), 4 V- (power), 5 NC, 6 OUT (hiz), 7 V+ (power), 8 ENABLE (in), 9 EP (power)

## OPA358AIDCKR
designator U?
Single Supply 80 MHz High-Speed Operational Amplifier, 2.7 to 3.3 V, -40 to 125 degC, 6-pin SOT23 (DCK6), Green (RoHS & no Sb/Br); Manufacturer: Texas Instruments; PartNumber: OPA358AIDCKR; Acl, min stable gain(V/V): 1; BW @ Acl(MHz): 75; Diff Gain(%): 0.3; Diff Phase(deg): 0.7; Iib(Max)(nA): 0.05; Io(Typ)(mA): 80; Iq per channel(Max)(mA): 6.5; Rail-Rail: Out; Slew Rate(Typ)(V/us): 55; Sub Family: High Output Current Amplifier (>=50mA), High Speed Amplifier (>=50MHz), Low Supply Voltage Amplifier (<=2.7V); Vio(Max)(mV): 6; Vn at Flatband(Typ)(nV/rtHz): 6.4; Vs(Max)(V): 3.3; Vs(Min)(V): 2.7; DatasheetVersion: SB0S296C; PackageVersion: 4093553-4/G, 01/2007; PackageReference: DCK6; PackageDescription: 6-Pin Plastic Small Outline, Body 2 x 1.25 mm, Pitch 0.65 mm; Supplier 1: Digi-Key; Supplier Part Number 1: OPA358AIDCKR-ND; Supplier 2: Mouser; Supplier Part Number 2: 595-OPA358AIDCKR; Eco-Plan: Green (RoHS & no Sb/Br); Number of Channels: 1; Mounting Technology: Surface Mount; Code_JEDEC: MO-203; ComponentLink1Description: Manufacturer URL; ComponentLink1URL: http://www.ti.com/; ComponentLink2Description: Datasheet; ComponentLink2URL: http://www.ti.com/general/docs/lit/getliterature.tsp?genericPartNumber=OPA358&fileType=pdf; ComponentLink3Description: Package Specification; ComponentLink3URL: http://www.ti.com/litv/pdf/mpds114c
footprint TI-DCK6_V (SOT23, 6-Leads, Body 2x1.25mm, Pitch 0.65mm)
pins: 1 IN+ (in), 2 GND (power), 3 IN- (in), 4 OUT (hiz), 5 ENABLE (in), 6 V+ (power)

## OPA358AIDCKRG4
designator U?
Single Supply 80 MHz High-Speed Operational Amplifier, 2.7 to 3.3 V, -40 to 125 degC, 6-pin SOT23 (DCK6), Green (RoHS & no Sb/Br); Manufacturer: Texas Instruments; PartNumber: OPA358AIDCKRG4; Acl, min stable gain(V/V): 1; BW @ Acl(MHz): 75; Diff Gain(%): 0.3; Diff Phase(deg): 0.7; Iib(Max)(nA): 0.05; Io(Typ)(mA): 80; Iq per channel(Max)(mA): 6.5; Rail-Rail: Out; Slew Rate(Typ)(V/us): 55; Sub Family: High Output Current Amplifier (>=50mA), High Speed Amplifier (>=50MHz), Low Supply Voltage Amplifier (<=2.7V); Vio(Max)(mV): 6; Vn at Flatband(Typ)(nV/rtHz): 6.4; Vs(Max)(V): 3.3; Vs(Min)(V): 2.7; DatasheetVersion: SB0S296C; PackageVersion: 4093553-4/G, 01/2007; PackageReference: DCK6; PackageDescription: 6-Pin Plastic Small Outline, Body 2 x 1.25 mm, Pitch 0.65 mm; Supplier 1: Digi-Key; Supplier Part Number 1: OPA358AIDCKRG4-ND; Supplier 2: Mouser; Supplier Part Number 2: 595-OPA358AIDCKRG4; Eco-Plan: Green (RoHS & no Sb/Br); Number of Channels: 1; Mounting Technology: Surface Mount; Code_JEDEC: MO-203; ComponentLink1Description: Manufacturer URL; ComponentLink1URL: http://www.ti.com/; ComponentLink2Description: Datasheet; ComponentLink2URL: http://www.ti.com/general/docs/lit/getliterature.tsp?genericPartNumber=OPA358&fileType=pdf; ComponentLink3Description: Package Specification; ComponentLink3URL: http://www.ti.com/litv/pdf/mpds114c
footprint TI-DCK6_V (SOT23, 6-Leads, Body 2x1.25mm, Pitch 0.65mm)
pins: 1 IN+ (in), 2 GND (power), 3 IN- (in), 4 OUT (hiz), 5 ENABLE (in), 6 V+ (power)

## OPA358AIDCKT
designator U?
Single Supply 80 MHz High-Speed Operational Amplifier, 2.7 to 3.3 V, -40 to 125 degC, 6-pin SOT23 (DCK6), Green (RoHS & no Sb/Br); Manufacturer: Texas Instruments; PartNumber: OPA358AIDCKT; Acl, min stable gain(V/V): 1; BW @ Acl(MHz): 75; Diff Gain(%): 0.3; Diff Phase(deg): 0.7; Iib(Max)(nA): 0.05; Io(Typ)(mA): 80; Iq per channel(Max)(mA): 6.5; Rail-Rail: Out; Slew Rate(Typ)(V/us): 55; Sub Family: High Output Current Amplifier (>=50mA), High Speed Amplifier (>=50MHz), Low Supply Voltage Amplifier (<=2.7V); Vio(Max)(mV): 6; Vn at Flatband(Typ)(nV/rtHz): 6.4; Vs(Max)(V): 3.3; Vs(Min)(V): 2.7; DatasheetVersion: SB0S296C; PackageVersion: 4093553-4/G, 01/2007; PackageReference: DCK6; PackageDescription: 6-Pin Plastic Small Outline, Body 2 x 1.25 mm, Pitch 0.65 mm; Supplier 1: Digi-Key; Supplier Part Number 1: 296-17414-2-ND; Supplier 2: Digi-Key; Supplier Part Number 2: 296-17414-1-ND; Supplier 3: Digi-Key; Supplier Part Number 3: 296-17414-6-ND; Supplier 4: Farnell; Supplier Part Number 4: 1754994; Supplier 5: Newark; Supplier Part Number 5: 34R8196; Supplier 6: Newark; Supplier Part Number 6: 65J6221; Supplier 7: Mouser; Supplier Part Number 7: 595-OPA358AIDCKT; Eco-Plan: Green (RoHS & no Sb/Br); Number of Channels: 1; Mounting Technology: Surface Mount; Code_JEDEC: MO-203; ComponentLink1Description: Manufacturer URL; ComponentLink1URL: http://www.ti.com/; ComponentLink2Description: Datasheet; ComponentLink2URL: http://www.ti.com/general/docs/lit/getliterature.tsp?genericPartNumber=OPA358&fileType=pdf; ComponentLink3Description: Package Specification; ComponentLink3URL: http://www.ti.com/litv/pdf/mpds114c
footprint TI-DCK6_V (SOT23, 6-Leads, Body 2x1.25mm, Pitch 0.65mm)
pins: 1 IN+ (in), 2 GND (power), 3 IN- (in), 4 OUT (hiz), 5 ENABLE (in), 6 V+ (power)

## OPA358AIDCKTG4
designator U?
Single Supply 80 MHz High-Speed Operational Amplifier, 2.7 to 3.3 V, -40 to 125 degC, 6-pin SOT23 (DCK6), Green (RoHS & no Sb/Br); Manufacturer: Texas Instruments; PartNumber: OPA358AIDCKTG4; Acl, min stable gain(V/V): 1; BW @ Acl(MHz): 80; Diff Gain(%): 0.3; Diff Phase(deg): 0.7; Iib(Max)(nA): 0.05; Io(Typ)(mA): 50; Iq per channel(Max)(mA): 5.2; Rail-Rail: Out; Settling Time (0.1%)(Typ)(ns): 35; Slew Rate(Typ)(V/us): 55; Sub Family: High Output Current Amplifier (>=50mA), High Speed Amplifier (>=50MHz), Low Supply Voltage Amplifier (<=2.7V); Vio(Max)(mV): 6; Vn at Flatband(Typ)(nV/rtHz): 6.4; Vs(Max)(V): 3.3; Vs(Min)(V): 2.7; DatasheetVersion: SB0S296C; PackageVersion: 4093553-4/G, 01/2007; PackageReference: DCK6; PackageDescription: 6-Pin Plastic Small Outline, Body 2 x 1.25 mm, Pitch 0.65 mm; Supplier 1: Digi-Key; Supplier Part Number 1: OPA358AIDCKTG4-ND; Supplier 2: Mouser; Supplier Part Number 2: 595-OPA358AIDCKTG4; Eco-Plan: Green (RoHS & no Sb/Br); Number of Channels: 1; Mounting Technology: Surface Mount; Code_JEDEC: MO-203; ComponentLink1Description: Manufacturer URL; ComponentLink1URL: http://www.ti.com/; ComponentLink2Description: Datasheet; ComponentLink2URL: http://www.ti.com/general/docs/lit/getliterature.tsp?genericPartNumber=OPA358&fileType=pdf; ComponentLink3Description: Package Specification; ComponentLink3URL: http://www.ti.com/litv/pdf/mpds114c
footprint TI-DCK6_V (SOT23, 6-Leads, Body 2x1.25mm, Pitch 0.65mm)
pins: 1 IN+ (in), 2 GND (power), 3 IN- (in), 4 OUT (hiz), 5 ENABLE (in), 6 V+ (power)

## OPA380AID
designator U?
High Speed Precision Transimpedance Amplifier, 2.7 to 5.5 V, -40 to 125 degC, 8-pin SOIC (D8), Green (RoHS & no Sb/Br); Manufacturer: Texas Instruments; PartNumber: OPA380AID; Iib(Max)(nA): 0.05; Iq per channel(Max)(mA): 8.8; Number of Channels: 1; Slew Rate(Typ)(V/us): 80; Sub Family: High Speed Amplifier (>=50MHz), Low Offset Voltage Amplifier (<=500uV), Low Supply Voltage Amplifier (<=2.7V); Vio(Max)(mV): 0.025; Vn at Flatband(Typ)(nV/rtHz): 3; Vs(Max)(V): 5.5; Vs(Min)(V): 2.7; DatasheetVersion: SBOS291G; PackageVersion: 4040047-3/M, 06/2011; PackageReference: D8; PackageDescription: 8-Pin Plastic Small Outline, Body 4.9 x 3.9 mm, Pitch 1.27 mm; Supplier 1: Digi-Key; Supplier Part Number 1: 296-16859-5-ND; Supplier 2: Newark; Supplier Part Number 2: 01J0608; Supplier 3: Mouser; Supplier Part Number 3: 595-OPA380AID; Eco-Plan: Green (RoHS & no Sb/Br); Mounting Technology: Surface Mount; Code_JEDEC: MS-012; ComponentLink1Description: Manufacturer URL; ComponentLink1URL: http://www.ti.com/; ComponentLink2Description: Datasheet; ComponentLink2URL: http://www.ti.com/general/docs/lit/getliterature.tsp?genericPartNumber=OPA380&fileType=pdf; ComponentLink3Description: Package Specification; ComponentLink3URL: http://www.ti.com/litv/pdf/msoi002j
footprint TI-D8_N (SOIC, 8-Leads, Body 4.9x3.9mm, Pitch 1.27mm, IPC Medium Density)
footprint TI-D8_L (SOIC, 8-Leads, Body 4.9x3.9mm, Pitch 1.27mm, IPC High Density)
footprint TI-D8_M (SOIC, 8-Leads, Body 4.9x3.9mm, Pitch 1.27mm, IPC Low Density)
part A pins: 2 IN- (in), 3 IN+ (in), 4 V- (power), 6 OUT (out), 7 V+ (power)
part B pins: 1 NC, 5 NC, 8 NC

## OPA380AIDG4
designator U?
High Speed Precision Transimpedance Amplifier, 2.7 to 5.5 V, -40 to 125 degC, 8-pin SOIC (D8), Green (RoHS & no Sb/Br); Manufacturer: Texas Instruments; PartNumber: OPA380AIDG4; Iib(Max)(nA): 0.05; Iq per channel(Max)(mA): 8.8; Number of Channels: 1; Slew Rate(Typ)(V/us): 80; Sub Family: High Speed Amplifier (>=50MHz), Low Offset Voltage Amplifier (<=500uV), Low Supply Voltage Amplifier (<=2.7V); Vio(Max)(mV): 0.025; Vn at Flatband(Typ)(nV/rtHz): 3; Vs(Max)(V): 5.5; Vs(Min)(V): 2.7; DatasheetVersion: SBOS291G; PackageVersion: 4040047-3/M, 06/2011; PackageReference: D8; PackageDescription: 8-Pin Plastic Small Outline, Body 4.9 x 3.9 mm, Pitch 1.27 mm; Supplier 1: Digi-Key; Supplier Part Number 1: OPA380AIDG4-ND; Supplier 2: Farnell; Supplier Part Number 2: 1180147; Supplier 3: Newark; Supplier Part Number 3: 26M1911; Supplier 4: Newark; Supplier Part Number 4: 70K4104; Supplier 5: Mouser; Supplier Part Number 5: 595-OPA380AIDG4; Eco-Plan: Green (RoHS & no Sb/Br); Mounting Technology: Surface Mount; Code_JEDEC: MS-012; ComponentLink1Description: Manufacturer URL; ComponentLink1URL: http://www.ti.com/; ComponentLink2Description: Datasheet; ComponentLink2URL: http://www.ti.com/general/docs/lit/getliterature.tsp?genericPartNumber=OPA380&fileType=pdf; ComponentLink3Description: Package Specification; ComponentLink3URL: http://www.ti.com/litv/pdf/msoi002j
footprint TI-D8_N (SOIC, 8-Leads, Body 4.9x3.9mm, Pitch 1.27mm, IPC Medium Density)
footprint TI-D8_L (SOIC, 8-Leads, Body 4.9x3.9mm, Pitch 1.27mm, IPC High Density)
footprint TI-D8_M (SOIC, 8-Leads, Body 4.9x3.9mm, Pitch 1.27mm, IPC Low Density)
part A pins: 2 IN- (in), 3 IN+ (in), 4 V- (power), 6 OUT (out), 7 V+ (power)
part B pins: 1 NC, 5 NC, 8 NC

## OPA380AIDGKR
designator U?
High Speed Precision Transimpedance Amplifier, 2.7 to 5.5 V, -40 to 125 degC, 8-pin SOP (DGK8), Green (RoHS & no Sb/Br); Manufacturer: Texas Instruments; PartNumber: OPA380AIDGKR; Iib(Max)(nA): 0.05; Iq per channel(Max)(mA): 8.8; Number of Channels: 1; Slew Rate(Typ)(V/us): 80; Sub Family: High Speed Amplifier (>=50MHz), Low Offset Voltage Amplifier (<=500uV), Low Supply Voltage Amplifier (<=2.7V); Vio(Max)(mV): 0.025; Vn at Flatband(Typ)(nV/rtHz): 3; Vs(Max)(V): 5.5; Vs(Min)(V): 2.7; DatasheetVersion: SBOS291G; PackageVersion: 4073329/E, 05/2006; PackageReference: DGK8; PackageDescription: 8-Pin Thin Small Outline, Body 3 x 3 mm, Pitch 0.65 mm; Supplier 1: Digi-Key; Supplier Part Number 1: OPA380AIDGKR-ND; Supplier 2: Newark; Supplier Part Number 2: 01J0609; Supplier 3: Mouser; Supplier Part Number 3: 595-OPA380AIDGKR; Eco-Plan: Green (RoHS & no Sb/Br); Mounting Technology: Surface Mount; Code_JEDEC: MO-187; ComponentLink1Description: Manufacturer URL; ComponentLink1URL: http://www.ti.com/; ComponentLink2Description: Datasheet; ComponentLink2URL: http://www.ti.com/general/docs/lit/getliterature.tsp?genericPartNumber=OPA380&fileType=pdf; ComponentLink3Description: Package Specification; ComponentLink3URL: http://www.ti.com/litv/pdf/mpds028d
footprint TI-DGK8_N (SOP, 8-Leads, Body 3x3mm, Pitch 0.65mm, IPC Medium Density)
footprint TI-DGK8_L (SOP, 8-Leads, Body 3x3mm, Pitch 0.65mm, IPC High Density)
footprint TI-DGK8_M (SOP, 8-Leads, Body 3x3mm, Pitch 0.65mm, IPC Low Density)
part A pins: 2 IN- (in), 3 IN+ (in), 4 V- (power), 6 OUT (out), 7 V+ (power)
part B pins: 1 NC, 5 NC, 8 NC

## OPA380AIDGKRG4
designator U?
High Speed Precision Transimpedance Amplifier, 2.7 to 5.5 V, -40 to 125 degC, 8-pin SOP (DGK8), Green (RoHS & no Sb/Br); Manufacturer: Texas Instruments; PartNumber: OPA380AIDGKRG4; Iib(Max)(nA): 0.05; Iq per channel(Max)(mA): 8.8; Number of Channels: 1; Slew Rate(Typ)(V/us): 80; Sub Family: High Speed Amplifier (>=50MHz), Low Offset Voltage Amplifier (<=500uV), Low Supply Voltage Amplifier (<=2.7V); Vio(Max)(mV): 0.025; Vn at Flatband(Typ)(nV/rtHz): 3; Vs(Max)(V): 5.5; Vs(Min)(V): 2.7; DatasheetVersion: SBOS291G; PackageVersion: 4073329/E, 05/2006; PackageReference: DGK8; PackageDescription: 8-Pin Thin Small Outline, Body 3 x 3 mm, Pitch 0.65 mm; Supplier 1: Digi-Key; Supplier Part Number 1: OPA380AIDGKRG4-ND; Supplier 2: Newark; Supplier Part Number 2: 70K4103; Supplier 3: Mouser; Supplier Part Number 3: 595-OPA380AIDGKRG4; Eco-Plan: Green (RoHS & no Sb/Br); Mounting Technology: Surface Mount; Code_JEDEC: MO-187; ComponentLink1Description: Manufacturer URL; ComponentLink1URL: http://www.ti.com/; ComponentLink2Description: Datasheet; ComponentLink2URL: http://www.ti.com/general/docs/lit/getliterature.tsp?genericPartNumber=OPA380&fileType=pdf; ComponentLink3Description: Package Specification; ComponentLink3URL: http://www.ti.com/litv/pdf/mpds028d
footprint TI-DGK8_N (SOP, 8-Leads, Body 3x3mm, Pitch 0.65mm, IPC Medium Density)
footprint TI-DGK8_L (SOP, 8-Leads, Body 3x3mm, Pitch 0.65mm, IPC High Density)
footprint TI-DGK8_M (SOP, 8-Leads, Body 3x3mm, Pitch 0.65mm, IPC Low Density)
part A pins: 2 IN- (in), 3 IN+ (in), 4 V- (power), 6 OUT (out), 7 V+ (power)
part B pins: 1 NC, 5 NC, 8 NC

## OPA380AIDGKT
designator U?
High Speed Precision Transimpedance Amplifier, 2.7 to 5.5 V, -40 to 125 degC, 8-pin SOP (DGK8), Green (RoHS & no Sb/Br); Manufacturer: Texas Instruments; PartNumber: OPA380AIDGKT; Iib(Max)(nA): 0.05; Iq per channel(Max)(mA): 8.8; Number of Channels: 1; Slew Rate(Typ)(V/us): 80; Sub Family: High Speed Amplifier (>=50MHz), Low Offset Voltage Amplifier (<=500uV), Low Supply Voltage Amplifier (<=2.7V); Vio(Max)(mV): 0.025; Vn at Flatband(Typ)(nV/rtHz): 3; Vs(Max)(V): 5.5; Vs(Min)(V): 2.7; DatasheetVersion: SBOS291G; PackageVersion: 4073329/E, 05/2006; PackageReference: DGK8; PackageDescription: 8-Pin Thin Small Outline, Body 3 x 3 mm, Pitch 0.65 mm; Supplier 1: Digi-Key; Supplier Part Number 1: 296-16860-2-ND; Supplier 2: Digi-Key; Supplier Part Number 2: 296-16860-1-ND; Supplier 3: Digi-Key; Supplier Part Number 3: 296-16860-6-ND; Supplier 4: Newark; Supplier Part Number 4: 01J0610; Supplier 5: Mouser; Supplier Part Number 5: 595-OPA380AIDGKT; Eco-Plan: Green (RoHS & no Sb/Br); Mounting Technology: Surface Mount; Code_JEDEC: MO-187; ComponentLink1Description: Manufacturer URL; ComponentLink1URL: http://www.ti.com/; ComponentLink2Description: Datasheet; ComponentLink2URL: http://www.ti.com/general/docs/lit/getliterature.tsp?genericPartNumber=OPA380&fileType=pdf; ComponentLink3Description: Package Specification; ComponentLink3URL: http://www.ti.com/litv/pdf/mpds028d
footprint TI-DGK8_N (SOP, 8-Leads, Body 3x3mm, Pitch 0.65mm, IPC Medium Density)
footprint TI-DGK8_L (SOP, 8-Leads, Body 3x3mm, Pitch 0.65mm, IPC High Density)
footprint TI-DGK8_M (SOP, 8-Leads, Body 3x3mm, Pitch 0.65mm, IPC Low Density)
part A pins: 2 IN- (in), 3 IN+ (in), 4 V- (power), 6 OUT (out), 7 V+ (power)
part B pins: 1 NC, 5 NC, 8 NC

## OPA380AIDGKTG4
designator U?
High Speed Precision Transimpedance Amplifier, 2.7 to 5.5 V, -40 to 125 degC, 8-pin SOP (DGK8), Green (RoHS & no Sb/Br); Manufacturer: Texas Instruments; PartNumber: OPA380AIDGKTG4; Iib(Max)(nA): 0.05; Iq per channel(Max)(mA): 8.8; Number of Channels: 1; Slew Rate(Typ)(V/us): 80; Sub Family: High Speed Amplifier (>=50MHz), Low Offset Voltage Amplifier (<=500uV), Low Supply Voltage Amplifier (<=2.7V); Vio(Max)(mV): 0.025; Vn at Flatband(Typ)(nV/rtHz): 3; Vs(Max)(V): 5.5; Vs(Min)(V): 2.7; DatasheetVersion: SBOS291G; PackageVersion: 4073329/E, 05/2006; PackageReference: DGK8; PackageDescription: 8-Pin Thin Small Outline, Body 3 x 3 mm, Pitch 0.65 mm; Supplier 1: Digi-Key; Supplier Part Number 1: OPA380AIDGKTG4-ND; Supplier 2: Mouser; Supplier Part Number 2: 595-OPA380AIDGKTG4; Eco-Plan: Green (RoHS & no Sb/Br); Mounting Technology: Surface Mount; Code_JEDEC: MO-187; ComponentLink1Description: Manufacturer URL; ComponentLink1URL: http://www.ti.com/; ComponentLink2Description: Datasheet; ComponentLink2URL: http://www.ti.com/general/docs/lit/getliterature.tsp?genericPartNumber=OPA380&fileType=pdf; ComponentLink3Description: Package Specification; ComponentLink3URL: http://www.ti.com/litv/pdf/mpds028d
footprint TI-DGK8_N (SOP, 8-Leads, Body 3x3mm, Pitch 0.65mm, IPC Medium Density)
footprint TI-DGK8_L (SOP, 8-Leads, Body 3x3mm, Pitch 0.65mm, IPC High Density)
footprint TI-DGK8_M (SOP, 8-Leads, Body 3x3mm, Pitch 0.65mm, IPC Low Density)
part A pins: 2 IN- (in), 3 IN+ (in), 4 V- (power), 6 OUT (out), 7 V+ (power)
part B pins: 1 NC, 5 NC, 8 NC

## OPA380AIDR
designator U?
High Speed Precision Transimpedance Amplifier, 2.7 to 5.5 V, -40 to 125 degC, 8-pin SOIC (D8), Green (RoHS & no Sb/Br); Manufacturer: Texas Instruments; PartNumber: OPA380AIDR; Iib(Max)(nA): 0.05; Iq per channel(Max)(mA): 8.8; Number of Channels: 1; Slew Rate(Typ)(V/us): 80; Sub Family: High Speed Amplifier (>=50MHz), Low Offset Voltage Amplifier (<=500uV), Low Supply Voltage Amplifier (<=2.7V); Vio(Max)(mV): 0.025; Vn at Flatband(Typ)(nV/rtHz): 3; Vs(Max)(V): 5.5; Vs(Min)(V): 2.7; DatasheetVersion: SBOS291G; PackageVersion: 4040047-3/M, 06/2011; PackageReference: D8; PackageDescription: 8-Pin Plastic Small Outline, Body 4.9 x 3.9 mm, Pitch 1.27 mm; Supplier 1: Digi-Key; Supplier Part Number 1: OPA380AIDR-ND; Supplier 2: Newark; Supplier Part Number 2: 01J0611; Supplier 3: Mouser; Supplier Part Number 3: 595-OPA380AIDR; Eco-Plan: Green (RoHS & no Sb/Br); Mounting Technology: Surface Mount; Code_JEDEC: MS-012; ComponentLink1Description: Manufacturer URL; ComponentLink1URL: http://www.ti.com/; ComponentLink2Description: Datasheet; ComponentLink2URL: http://www.ti.com/general/docs/lit/getliterature.tsp?genericPartNumber=OPA380&fileType=pdf; ComponentLink3Description: Package Specification; ComponentLink3URL: http://www.ti.com/litv/pdf/msoi002j
footprint TI-D8_N (SOIC, 8-Leads, Body 4.9x3.9mm, Pitch 1.27mm, IPC Medium Density)
footprint TI-D8_L (SOIC, 8-Leads, Body 4.9x3.9mm, Pitch 1.27mm, IPC High Density)
footprint TI-D8_M (SOIC, 8-Leads, Body 4.9x3.9mm, Pitch 1.27mm, IPC Low Density)
part A pins: 2 IN- (in), 3 IN+ (in), 4 V- (power), 6 OUT (out), 7 V+ (power)
part B pins: 1 NC, 5 NC, 8 NC

## OPA380AIDRG4
designator U?
High Speed Precision Transimpedance Amplifier, 2.7 to 5.5 V, -40 to 125 degC, 8-pin SOIC (D8), Green (RoHS & no Sb/Br); Manufacturer: Texas Instruments; PartNumber: OPA380AIDRG4; Iib(Max)(nA): 0.05; Iq per channel(Max)(mA): 8.8; Number of Channels: 1; Slew Rate(Typ)(V/us): 80; Sub Family: High Speed Amplifier (>=50MHz), Low Offset Voltage Amplifier (<=500uV), Low Supply Voltage Amplifier (<=2.7V); Vio(Max)(mV): 0.025; Vn at Flatband(Typ)(nV/rtHz): 5.8; Vs(Max)(V): 5.5; Vs(Min)(V): 2.7; DatasheetVersion: SBOS291G; PackageVersion: 4040047-3/M, 06/2011; PackageReference: D8; PackageDescription: 8-Pin Plastic Small Outline, Body 4.9 x 3.9 mm, Pitch 1.27 mm; Supplier 1: Digi-Key; Supplier Part Number 1: OPA380AIDRG4-ND; Supplier 2: Newark; Supplier Part Number 2: 67K8208; Supplier 3: Mouser; Supplier Part Number 3: 595-OPA380AIDRG4; Eco-Plan: Green (RoHS & no Sb/Br); Mounting Technology: Surface Mount; Code_JEDEC: MS-012; ComponentLink1Description: Manufacturer URL; ComponentLink1URL: http://www.ti.com/; ComponentLink2Description: Datasheet; ComponentLink2URL: http://www.ti.com/general/docs/lit/getliterature.tsp?genericPartNumber=OPA380&fileType=pdf; ComponentLink3Description: Package Specification; ComponentLink3URL: http://www.ti.com/litv/pdf/msoi002j
footprint TI-D8_N (SOIC, 8-Leads, Body 4.9x3.9mm, Pitch 1.27mm, IPC Medium Density)
footprint TI-D8_L (SOIC, 8-Leads, Body 4.9x3.9mm, Pitch 1.27mm, IPC High Density)
footprint TI-D8_M (SOIC, 8-Leads, Body 4.9x3.9mm, Pitch 1.27mm, IPC Low Density)
part A pins: 2 IN- (in), 3 IN+ (in), 4 V- (power), 6 OUT (out), 7 V+ (power)
part B pins: 1 NC, 5 NC, 8 NC